# Altium integrated library Proxxon_PWM.IntLib: 13 symbols
Pins are listed as number, name and electrical type; pins without a type are passive.

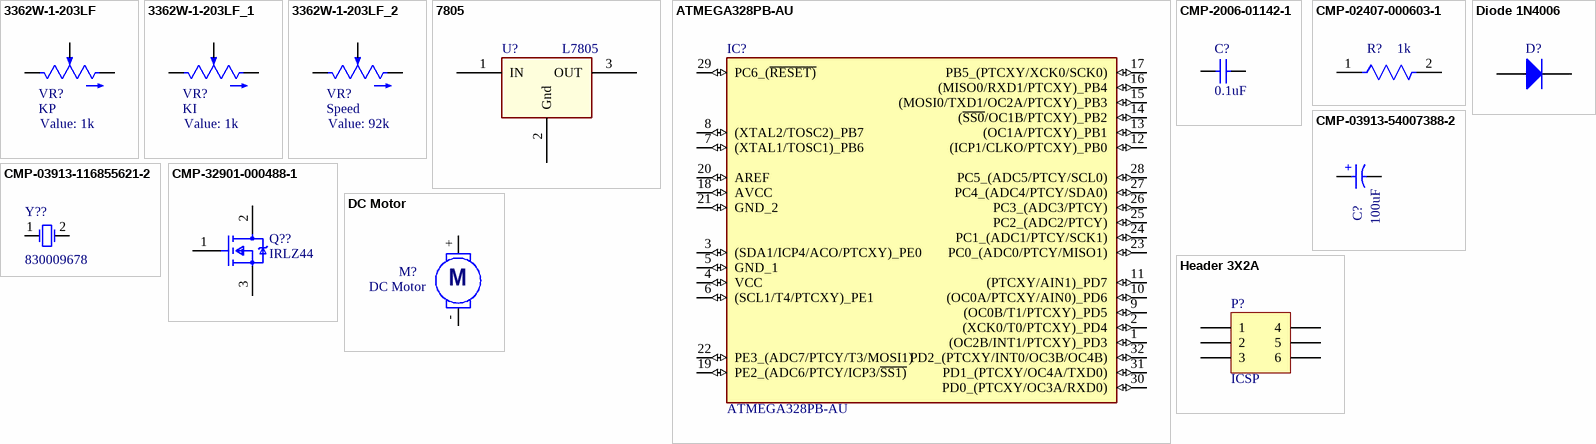
[diagram p0: symbols 3362W-1-203LF to Header 3X2A]

## 3362W-1-203LF
designator VR?, comment KP  value 1k
1/4 Sq, Thru-Hole, TRIMMER, 20 Kilohms, Cermet, Single Turn | Bourns 3362W-1-203LF; SnapEDA_Link: https://www.snapeda.com/parts/3362W-1-203LF/Bourns/view-part/?ref=snap; Package: DIP-3 Bourns; MF: Bourns; MP: 3362W-1-203LF; Check_prices: https://www.snapeda.com/parts/3362W-1-203LF/Bourns/view-part/?ref=eda
footprint TRIM_3362W-1-203LF
pins: 1 CCW, 2 WIPER, 3 CW

## 3362W-1-203LF_1
designator VR?, comment KI  value 1k
1/4 Sq, Thru-Hole, TRIMMER, 20 Kilohms, Cermet, Single Turn | Bourns 3362W-1-203LF; SnapEDA_Link: https://www.snapeda.com/parts/3362W-1-203LF/Bourns/view-part/?ref=snap; Package: DIP-3 Bourns; MF: Bourns; MP: 3362W-1-203LF; Check_prices: https://www.snapeda.com/parts/3362W-1-203LF/Bourns/view-part/?ref=eda
footprint TRIM_3362W-1-203LF
pins: 1 CCW, 2 WIPER, 3 CW

## 3362W-1-203LF_2
designator VR?, comment Speed  value 92k
1/4 Sq, Thru-Hole, TRIMMER, 20 Kilohms, Cermet, Single Turn | Bourns 3362W-1-203LF; SnapEDA_Link: https://www.snapeda.com/parts/3362W-1-203LF/Bourns/view-part/?ref=snap; Package: DIP-3 Bourns; MF: Bourns; MP: 3362W-1-203LF; Check_prices: https://www.snapeda.com/parts/3362W-1-203LF/Bourns/view-part/?ref=eda
footprint TRIM_3362W-1-203LF
pins: 1 CCW, 2 WIPER, 3 CW

## 7805
designator U?, comment L7805
footprint DPAK - duplicate
pins: 1 IN, 2 Gnd, 3 OUT

## ATMEGA328PB-AU
designator IC?
AVR AVRВ® ATmega, Functional Safety (FuSa) Microcontroller IC 8-Bit 20MHz 32KB (16K x 16) FLASH 32-TQFP (7x7); MF: Microchip Technology; MP: ATMEGA328PBAU; SnapEDA_Link: https://www.snapeda.com/parts/ATMEGA328PBAU/Microchip+Technology/view-part/?ref=snap; Package: None; Value: *; Check_prices: https://www.snapeda.com/parts/ATMEGA328PBAU/Microchip+Technology/view-part/?ref=eda
footprint QFP80P900X900X120-32N
pins: 1 (OC2B/INT1/PTCXY)_PD3 (io), 2 (XCK0/T0/PTCXY)_PD4 (io), 3 (SDA1/ICP4/ACO/PTCXY)_PE0 (io), 4 VCC (io), 5 GND_1 (io), 6 (SCL1/T4/PTCXY)_PE1 (io), 7 (XTAL1/TOSC1)_PB6 (io), 8 (XTAL2/TOSC2)_PB7 (io), 9 (OC0B/T1/PTCXY)_PD5 (io), 10 (OC0A/PTCXY/AIN0)_PD6 (io), 11 (PTCXY/AIN1)_PD7 (io), 12 (ICP1/CLKO/PTCXY)_PB0 (io), 13 (OC1A/PTCXY)_PB1 (io), 14 (~{SS0}/OC1B/PTCXY)_PB2 (io), 15 (MOSI0/TXD1/OC2A/PTCXY)_PB3 (io), 16 (MISO0/RXD1/PTCXY)_PB4 (io), 17 PB5_(PTCXY/XCK0/SCK0) (io), 18 AVCC (io), 19 PE2_(ADC6/PTCY/ICP3/~{SS1)} (io), 20 AREF (io), 21 GND_2 (io), 22 PE3_(ADC7/PTCY/T3/MOSI1) (io), 23 PC0_(ADC0/PTCY/MISO1) (io), 24 PC1_(ADC1/PTCY/SCK1) (io), 25 PC2_(ADC2/PTCY) (io), 26 PC3_(ADC3/PTCY) (io), 27 PC4_(ADC4/PTCY/SDA0) (io), 28 PC5_(ADC5/PTCY/SCL0) (io), 29 PC6_(~{RESET)} (io), 30 PD0_(PTCXY/OC3A/RXD0) (io), 31 PD1_(PTCXY/OC4A/TXD0) (io), 32 PD2_(PTCXY/INT0/OC3B/OC4B) (io)

## CMP-2006-01142-1
designator C?, comment 0.1uF
Manufacturer: Vitramon; Part Number: VJ0603Y102KXXAC
footprint CAPC1608X92X38ML15T08 (Chip Capacitor, 2-Leads, Body 1.60x0.80mm, IPC Low Density)
footprint CAPC1608X92X38LL15T08 (Chip Capacitor, 2-Leads, Body 1.60x0.80mm, IPC High Density)
footprint CAPC1608X92X38NL15T08 (Chip Capacitor, 2-Leads, Body 1.60x0.80mm, IPC Medium Density)
pins: 1, 2
1 alternate drawing of the same symbol

## CMP-02407-000603-1
designator R?, comment 1k
RES SMD 100 OHM 1% 1/8W 0603; Resistance: 4.02kR; Voltage Rating: 75V; Tolerance: 0.1%; Power Rating: 125mW; Packaging: Tape and Reel; Width: 0.85mm; Length: 1.55mm; Composition: Thin Film; Max Operating Temperature: 155°C; Min Operating Temperature: -55°C; Case/Package: 0603; Case Code (Metric): 1608; Case Code (Imperial): 0603; Height: 0.45mm; Weight: 6.7E-05oz
footprint FP-MCT0603-MFG
footprint FP-MCT0603-IPC_C
footprint FP-MCT0603-IPC_B
footprint FP-MCT0603-IPC_A
pins: 1, 2

## CMP-03913-54007388-2
designator C?, comment 100uF
Aluminium Electrolytic Capacitor-Leaded Rohs Compliant: Yes; Leakage Current: 27µA; Polarity: Polar; Voltage Rating: 10V; Ripple Current: 420mA; Pitch: 3.5mm; Impedance: 530mΩ; Life (Hours): 7000hours; Capacitance: 270µF; Tolerance: 20%; Mount: Through Hole; Max Operating Temperature: 105°C; Length: 11.5mm; Lead Pitch: 3.5052mm; Min Operating Temperature: -55°C; Height - Seated (Max): 13.0048mm; Case/Package: Radial; Diameter: 8mm; Packaging: Tape & Box (TB); RoHS: Compliant
footprint WCAP-ATLL_D8H11.5 (Aluminium Electrolytic Capacitor-Leaded Rohs Compliant: Yes)
pins: 1 P, 2 N
text: +

## CMP-03913-116855621-2
designator Y??, comment 830009678
WE-XTAL Quartz Crystal; Frequency: 32.768kHz; Width: 1.5mm; Length: 3.2mm; Height: 900µm; Min Operating Temperature: -40°C; Max Operating Temperature: 85°C
footprint WE-XTAL_CFPX-217
pins: 1 OSC1, 2 OSC2

## CMP-32901-000488-1
designator Q??, comment IRLZ44
MOSFET N-CH 55V 47A TO220AB; Turn-On Delay Time: 11ns; Gate to Source Voltage (Vgs): 16V; Element Configuration: Single; Rds On Max: 22mR; Turn-Off Delay Time: 26ns; Max Power Dissipation: 110W; Threshold Voltage: 2V; Drain to Source Resistance: 35mR; Input Capacitance: 1.7nF; Continuous Drain Current (ID): 47A; Case/Package: TO-220; Lead Free: Lead Free; Halogen Free: Halogen Free; Packaging: Rail/Tube; Length: 0.414inch; Min Operating Temperature: -55°C; REACH SVHC: No SVHC; Number of Pins: 3; Width: 0.185inch; Drain to Source Voltage (Vdss): 55V; Power Dissipation: 110W; RoHS Compliant: Yes; Max Operating Temperature: 175°C; Height: 0.6inch; Max Dual Supply Voltage: 55V; Drain to Source Breakdown Voltage: 55V; Mount: Through Hole
footprint FP-PG-TO220-3-MFG
pins: 1 G, 2 D, 3 S

## DC Motor
designator M?
LA: 1.5M; RA: 0.5; KE: 0.05; JM: 250U; BM: 0.1M; TL: 0; SimulationGenericComponent: True; KT: 0.05
simulation model DC_MOTOR (Motors)
pins: + 1, - 2
text: M

## Diode 1N4006
designator D?  (value not drawn)
1 Amp General Purpose Rectifier; Published: 8-Jun-2000; LatestRevisionDate: 17-Jul-2002; LatestRevisionNote: Re-released for DXP Platform.; DatasheetVersion: 1998; PackageVersion: Aug-1999; PackageReference: DO-41; Publisher: Altium Limited; Code_JEDEC: DO-204-AL; ComponentLink1Description: Manufacturer Link; ComponentLink1URL: http://www.fairchildsemi.com/; ComponentLink2Description: Datasheet; ComponentLink2URL: http://www.fairchildsemi.com/ds/1N%2F1N4001.pdf
footprint DIO10.46-5.3x2.8 (Diode, Axial; Body 5.2 x 2.7 mm (LxDia. max), Lead Dia. 0.86 mm (max))
simulation model 1N4006 (DIODE)
signal-integrity model 1N4006
pins: 1 A, 2 K

## Header 3X2A
designator P?, comment ICSP
Header, 3-Pin, Dual row; LatestRevisionDate: 17-Jul-2002; LatestRevisionNote: Re-released for DXP Platform.; Publisher: Altium Limited
footprint HDR2X3_CEN (Connector; Header; 3x2 Position)
signal-integrity model Connector
pins: 1, 2, 3, 4, 5, 6